# EAGLE library part ATTINY10 (library Chips)
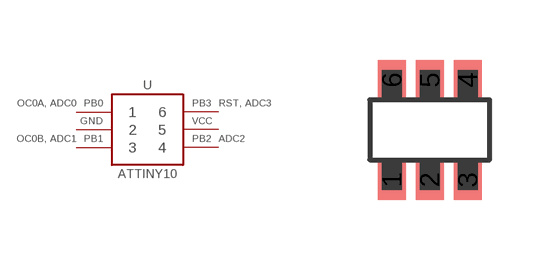
[diagram p23: symbol with the pads of SOT23-6; footprint SOT23-6]

Designator prefix U

## ATTINY10SOT23  [SOT23-6]
1  1
2  2
3  3
4  4
5  5
6  6

## Footprint SOT23-6 (pad centres in mm)
smd 0.7 x 1: 1 -0.95,-1.25; 2 0,-1.25; 3 0.95,-1.25; 4 0.95,1.25; 5 0,1.25; 6 -0.95,1.25